# Altium schematic symbol library Linear_Regulator_Sch.SchLib: 10 symbols
Pins are listed as number, name and electrical type; pins without a type are passive.

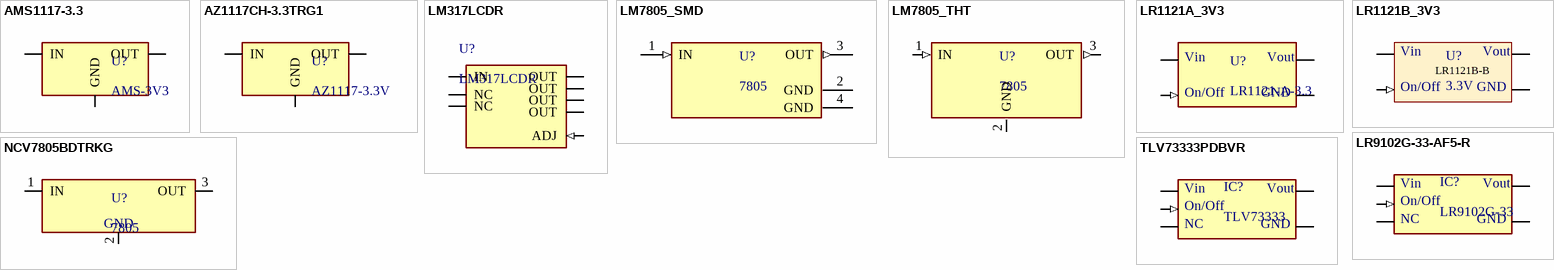
[diagram p0: symbols AMS1117-3.3 to TLV73333PDBVR]

## AMS1117-3.3
designator U?, comment AMS-3V3
Low Dropout Linear Regulator; Max Input Voltage: 15V; Max Output Current: 1A; Output Voltage: 3.3V; Max Dropout voltage: 1.4V; ComponentLink1Description: Link 1; ComponentLink1URL: https://ozdisan.com/entegre-devreler-icler/guc-entegreleri/lineer-voltaj-regulatorleri/AMS1117-3-3/348307; Package: SOT223
footprint SOT-223 (SOT223, 4-Leads, Body 6.5x3.5mm, Pitch 2.3mm)
pins: 1 GND (power), 2 OUT (power), 3 IN (power)

## AZ1117CH-3.3TRG1
designator U?, comment AZ1117-3.3V
Low Dropout Linear Regulator; Max Input Voltage: 15V; Max Output Current: 1A; Output Voltage: 3.3V; Max Dropout voltage: 1.4V; ComponentLink1Description: Link; ComponentLink1URL: https://ozdisan.com/integrated-circuits-ics/power-management-ics/linear-voltage-regulators/AZ1117CH-3-3TRG1/431945; Package: SOT223
footprint SOT-223 (SOT223, 4-Leads, Body 6.5x3.5mm, Pitch 2.3mm)
pins: 1 GND (power), 2 OUT (power), 3 IN (power)

## LM317LCDR
designator U?
Adjustable Regulator with 3.7 to 38 V Input and 1.2 to 32 V Output, 0 to 125 degC, 8-Pin SOIC (D), Green (RoHS & no Sb/Br); Manufacturer: Texas Instruments; Vout(Min)(V): 1.2; Iout(Max)(A): 0.1; Vout(Max)(V): 32; Vin(Min)(V): 3.7; Vin(Max)(V): 38; PackageVersion: revM, Jun-2011; PackageReference: D0008A; Code_JEDEC: MS-012AA; Eco-Plan: Green (RoHS & no Sb/Br); DatasheetVersion: SLCS144D; PackageDescription: 8-Pin Plastic Small Outline Integrated Circuit, 4.9 x 3.9 mm, Pitch 1.27 mm Pitch; PartNumber: LM317LCDR; Mounting Technology: Surface Mount; ComponentLink3Description: Link
footprint D0008A_L (SOIC, 8-Leads, Body 5x4mm, Pitch 1.27mm, IPC High Density)
footprint D0008A_M (SOIC, 8-Leads, Body 5x4mm, Pitch 1.27mm, IPC Low Density)
footprint D0008A_N (SOIC, 8-Leads, Body 5x4mm, Pitch 1.27mm, IPC Medium Density)
pins: 1 IN (power), 2 OUT (power), 3 OUT (power), 4 ADJ (in), 5 NC, 6 OUT (power), 7 OUT (power), 8 NC

## LM7805_SMD
designator U?, comment 7805
1.5-A, 30-V, linear voltage regulator 3-DDPAK/TO-263 0 to 125; MP: LM7805S/NOPB; MF: Texas Instruments; Value: *; SnapEDA_Link: https://www.snapeda.com/parts/LM7805S/NOPB/Texas%20Instruments/view-part/546227/?ref=snap; Price: None; Package: TO-263-3 Texas Instruments; DigiKey-Purchase-URL: https://snapeda.com/shop?store=DigiKey&id=546227; Texas_Instruments-Purchase-URL: https://snapeda.com/shop?store=Texas+Instruments&id=546227; Availability: Warning
footprint TO254P1524X483-4N
pins: 1 IN (in), 2 GND (power), 3 OUT (out), 4 GND (power)

## LM7805_THT
designator U?, comment 7805
1.5-A, 30-V, linear voltage regulator 3-DDPAK/TO-263 0 to 125; MP: LM7805S/NOPB; MF: Texas Instruments; Value: *; SnapEDA_Link: https://www.snapeda.com/parts/LM7805S/NOPB/Texas%20Instruments/view-part/546227/?ref=snap; Price: None; Package: TO-263-3 Texas Instruments; DigiKey-Purchase-URL: https://snapeda.com/shop?store=DigiKey&id=546227; Texas_Instruments-Purchase-URL: https://snapeda.com/shop?store=Texas+Instruments&id=546227; Availability: Warning
footprint TO-220F-VERTICAL
pins: 1 IN (in), 2 GND (power), 3 OUT (out)

## LR1121A_3V3
designator U?, comment LR1121-A-3.3
200mA 7V High Ripple Rejection LDO Regulator; Value: 3.3V; ComponentLink1Description: Link; ComponentLink1URL: https://ozdisan.com/integrated-circuits-ics/power-management-ics/linear-voltage-regulators/LR1121BG-33-AF5-A-R/527104; Current: 200mA; Max. Input: 7V
footprint SOT25_LR2111 (SOT23, 5-Leads, Body 3.00x2.80mm, Pitch 0.95mm, IPC Medium Density)
pins: 1 Vin (power), 2 Vss, 3 ON/OFF (in), 5 Vout (power)
text: On/Off; GND

## LR1121B_3V3
designator U?, comment 3.3V
200mA 7V LDO; Value: 3.3V
footprint SOT25_LR2111 (SOT23, 5-Leads, Body 3.00x2.80mm, Pitch 0.95mm, IPC Medium Density)
pins: 1 Vout (power), 2 Vss, 3 Vin (power), 4 ON/OFF (in)
text: LR1121B-B; On/Off; GND

## LR9102G-33-AF5-R
designator IC?, comment LR9102G-33
Low Noise 300mA LDO Regulator; Output Voltage: 3.3V; Max Input Voltage: 6V; Dropout Voltage: 0.20V; ComponentLink1Description: Link; ComponentLink1URL: https://ozdisan.com/entegre-devreler-icler/guc-entegreleri/lineer-voltaj-regulatorleri/LR9102G-33-AF5-R/700883; Max Output Current: 300mA; Package: SOT25
footprint DIODES SOT25 (SOT25, 5-Leads, Body 3.00x2.85mm, Pitch 0.95mm, IPC Medium Density)
pins: 1 Vin (power), 2 GND, 3 ON/OFF (in), 4 NC, 5 Vout (power)
text: On/Off

## NCV7805BDTRKG
designator U?, comment 7805
NCV7800 Series 1 A 5 V Fixed Output SMT LDO Positive Voltage Regulator - DPAK; Manufacturer: ON Semiconductor; Manufacturer Part Number: NCV7805BDTRKG; Number of Outputs: 1; Output Voltage: 5V; Max Input Voltage: 35V; Dropout Voltage: 2V; Output Current: 1A; Min Input Voltage: 7V; Quiescent Current: 8mA; Output Voltage Accuracy: 4%; Power Supply Rejection Ratio (PSRR): 68dB; Supplier 1: Digi-Key; RoHS: Yes; Category: Voltage Regulators - Linear; Stock 1: 150; Pricing 1: 1=0,71000, 10=0,62300, 25=0,58520, 100=0,47760, 250=0,44364, 500=0,37758, 1000=0,31168 (USD); Mount: Surface Mount; Case/Package: DPAK; Number of Pins: 3; Min Operating Temperature: -40°C; Max Operating Temperature: 125°C; Packaging: Tape and Reel; Package Quantity: 1; Max Output Current: 1A; Number of Regulators: 1; Polarity: Positive; Nominal Output Voltage: 5V; Min Output Voltage: 5V; Accuracy: 4%; Output Type: Fixed; Series: Automotive, AEC-Q100; Radiation Hardening: No; REACH SVHC: No SVHC; Lead Free: Lead Free; RoHS Compliant: Yes; ComponentLink1URL: https://datasheet.ciiva.com/6591/mc7800-d-6591164.pdf?src-supplier=Digi-Key; ComponentLink1Description: https://datasheet.ciiva.com/6591/mc7800-d-6591164.pdf?src-supplier=Digi-Key; ComponentLink2URL: https://datasheet.ciiva.com/6591/mc7800-d-6591166.pdf?src-supplier=Digi-Key; ComponentLink2Description: https://datasheet.ciiva.com/6591/mc7800-d-6591166.pdf?src-supplier=Digi-Key; ComponentLink3URL: https://datasheet.ciiva.com/26178/mc7800-d-26178535.pdf?src-supplier=Avnet+Europe; ComponentLink3Description: https://datasheet.ciiva.com/26178/mc7800-d-26178535.pdf?src-supplier=Avnet+Europe; ComponentLink4URL: https://datasheet.ciiva.com/6591/mc7800-d-6591162.pdf?src-supplier=Digi-Key; ComponentLink4Description: https://datasheet.ciiva.com/6591/mc7800-d-6591162.pdf?src-supplier=Digi-Key; ComponentLink5URL: https://datasheet.ciiva.com/16469/mc7800-d-16469373.pdf?src-supplier=Future+Electronics; ComponentLink5Description: https://datasheet.ciiva.com/16469/mc7800-d-16469373.pdf?src-supplier=Future+Electronics
footprint 7805_DPAK
pins: 1 IN (power), 2 GND (power), 3 OUT (power)

## TLV73333PDBVR
designator IC?, comment TLV73333
Low Noise 300mA LDO Regulator; Output Voltage: 3.3V; Max Input Voltage: 6V; Dropout Voltage: 0.20V; ComponentLink1Description: Link; ComponentLink1URL: https://ozdisan.com/integrated-circuits-ics/power-management-ics/linear-voltage-regulators/TLV73333PDBVR/532538; Max Output Current: 300mA; Package: SOT25
footprint DIODES SOT25 (SOT25, 5-Leads, Body 3.00x2.85mm, Pitch 0.95mm, IPC Medium Density)
pins: 1 Vin (power), 2 GND, 3 ON/OFF (in), 4 NC, 5 Vout (power)
text: On/Off